# Altium integrated library Bitwise USB Module.IntLib: 1 symbol
Pins are listed as number, name and electrical type; pins without a type are passive.

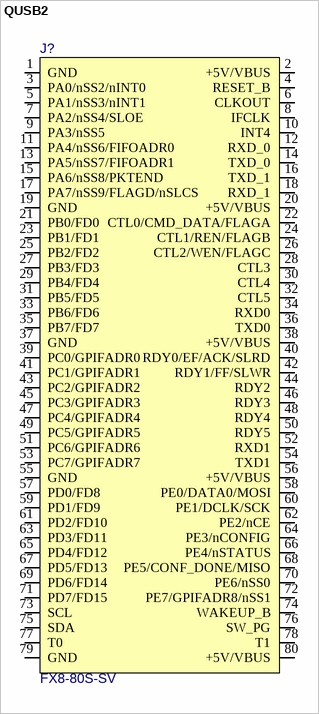
[diagram p0: symbol QUSB2]

## QUSB2
designator J?, comment FX8-80S-SV
QuickUSB QUSB2 USB Module; Manufacturer: Hirose; Right: 60; Bottom: 410; Part Number: FX8-80S-SV; Value: FX8-80S-SV; ComponentLink1Description: QuickUSB Website; ComponentLink1URL: http://www.quickusb.com/store/index.php?main_page=product_info&cPath=1&products_id=1; ComponentLink3Description: QuickUSB Datasheet; ComponentLink3URL: http://www.quickusb.com/store/media/qusb2.pdf; ComponentLink2Description: QuickUSB Target Interface Guide; ComponentLink2URL: http://www.quickusb.com/store/media/quickusb_target_interface.pdf; ComponentLink4Description: QuickUSB User Guide; ComponentLink4URL: http://www.quickusb.com/store/media/quickusb_user_guide.pdf
footprint QUSB2
pins: 1 GND, 2 +5V/VBUS, 3 PA0/nSS2/nINT0, 4 RESET_B, 5 PA1/nSS3/nINT1, 6 CLKOUT, 7 PA2/nSS4/SLOE, 8 IFCLK, 9 PA3/nSS5, 10 INT4, 11 PA4/nSS6/FIFOADR0, 12 RXD_0, 13 PA5/nSS7/FIFOADR1, 14 TXD_0, 15 PA6/nSS8/PKTEND, 16 TXD_1, 17 PA7/nSS9/FLAGD/nSLCS, 18 RXD_1, 19 GND, 20 +5V/VBUS, 21 PB0/FD0, 22 CTL0/CMD_DATA/FLAGA, 23 PB1/FD1, 24 CTL1/REN/FLAGB, 25 PB2/FD2, 26 CTL2/WEN/FLAGC, 27 PB3/FD3, 28 CTL3, 29 PB4/FD4, 30 CTL4, 31 PB5/FD5, 32 CTL5, 33 PB6/FD6, 34 RXD0, 35 PB7/FD7, 36 TXD0, 37 GND, 38 +5V/VBUS, 39 PC0/GPIFADR0, 40 RDY0/EF/ACK/SLRD, 41 PC1/GPIFADR1, 42 RDY1/FF/SLWR, 43 PC2/GPIFADR2, 44 RDY2, 45 PC3/GPIFADR3, 46 RDY3, 47 PC4/GPIFADR4, 48 RDY4, 49 PC5/GPIFADR5, 50 RDY5, 51 PC6/GPIFADR6, 52 RXD1, 53 PC7/GPIFADR7, 54 TXD1, 55 GND, 56 +5V/VBUS, 57 PD0/FD8, 58 PE0/DATA0/MOSI, 59 PD1/FD9, 60 PE1/DCLK/SCK, 61 PD2/FD10, 62 PE2/nCE, 63 PD3/FD11, 64 PE3/nCONFIG, 65 PD4/FD12, 66 PE4/nSTATUS, 67 PD5/FD13, 68 PE5/CONF_DONE/MISO, 69 PD6/FD14, 70 PE6/nSS0, 71 PD7/FD15, 72 PE7/GPIFADR8/nSS1, 73 SCL, 74 WAKEUP_B, 75 SDA, 76 SW_PG, 77 T0, 78 T1, 79 GND, 80 +5V/VBUS